# EAGLE library part PAN1720 (library TuansLib)
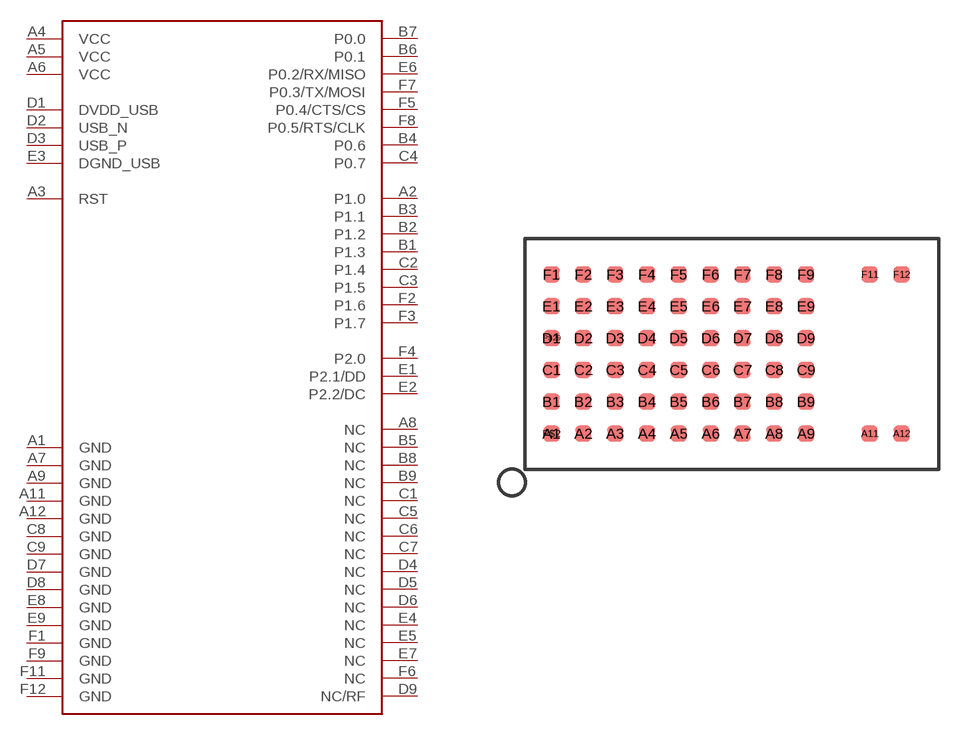
[diagram p7: symbol with the pads of PAN1720; footprint PAN1720]

Designator prefix -

## PAN1720  [PAN1720]
A1  GND
A2  P1.0
A3  RST
A4  VCC
A5  VCC
A6  VCC
A7  GND
A8  NC
A9  GND
A11  GND
A12  GND
B1  P1.3
B2  P1.2
B3  P1.1
B4  P0.6
B5  NC
B6  P0.1
B7  P0.0
B8  NC
B9  NC
C1  NC
C2  P1.4
C3  P1.5
C4  P0.7
C5  NC
C6  NC
C7  NC
C8  GND
C9  GND
D1  DVDD_USB
D2  USB_N
D3  USB_P
D4  NC
D5  NC
D6  NC
D7  GND
D8  GND
D9  NC/RF
E1  P2.1/DD
E2  P2.2/DC
E3  DGND_USB
E4  NC
E5  NC
E6  P0.2/RX/MISO
E7  NC
E8  GND
E9  GND
F1  GND
F2  P1.6
F3  P1.7
F4  P2.0
F5  P0.4/CTS/CS
F6  NC
F7  P0.3/TX/MOSI
F8  P0.5/RTS/CLK
F9  GND
F11  GND
F12  GND

## Footprint PAN1720 (pad centres in mm)
smd 0.6 x 0.6: A1 1,1.35; A2 2.2,1.35; A3 3.4,1.35; A4 4.6,1.35; A5 5.8,1.35; A6 7,1.35; A7 8.2,1.35; A8 9.4,1.35; A9 10.6,1.35; A11 13,1.35; A12 14.2,1.35; B1 1,2.55; B2 2.2,2.55; B3 3.4,2.55; B4 4.6,2.55; B5 5.8,2.55; B6 7,2.55; B7 8.2,2.55; B8 9.4,2.55; B9 10.6,2.55; C1 1,3.75; C2 2.2,3.75; C3 3.4,3.75; C4 4.6,3.75; C5 5.8,3.75; C6 7,3.75; C7 8.2,3.75; C8 9.4,3.75; C9 10.6,3.75; D1 1,4.95; D2 2.2,4.95; D3 3.4,4.95; D4 4.6,4.95; D5 5.8,4.95; D6 7,4.95; D7 8.2,4.95; D8 9.4,4.95; D9 10.6,4.95; E1 1,6.15; E2 2.2,6.15; E3 3.4,6.15; E4 4.6,6.15; E5 5.8,6.15; E6 7,6.15; E7 8.2,6.15; E8 9.4,6.15; E9 10.6,6.15; F1 1,7.35; F2 2.2,7.35; F3 3.4,7.35; F4 4.6,7.35; F5 5.8,7.35; F6 7,7.35; F7 8.2,7.35; F8 9.4,7.35; F9 10.6,7.35; F11 13,7.35; F12 14.2,7.35; P$2 1,1.35; P$29 1,4.95